# Altium footprint library LED0606.PcbLib: 1 footprints
Each footprint in its own frame and in the unit in brackets; x right, y up, seen from the top. Pads: shape width x height; smd on the part's side, far side on the other; paste and mask are expansions set on the pad; w line width, h text height; cw(c..) or ccw(c..) is an arc to the next point about the centre after c.
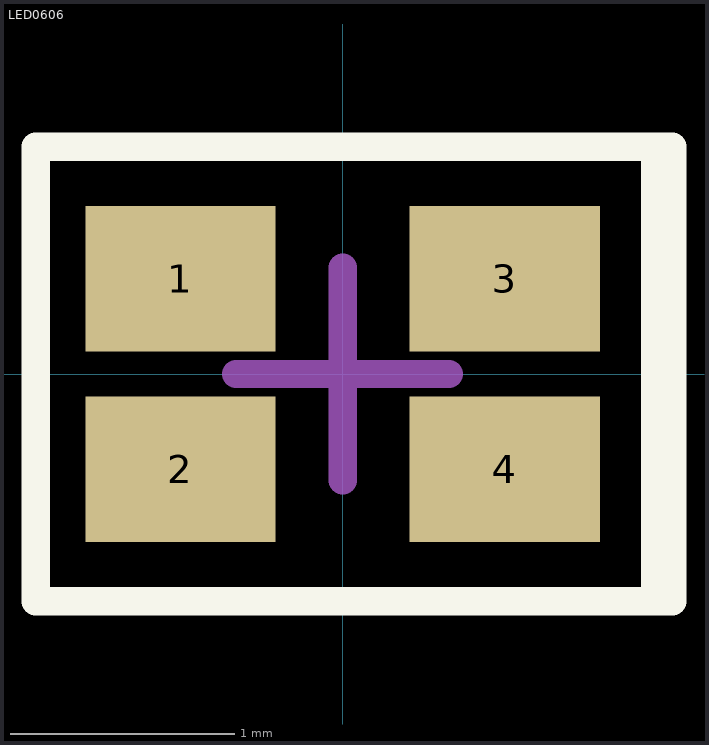
[diagram p0: the footprint, top view; thin cyan lines are the x and y axes]

## LED0606 [mm]
height 0.55
pads (4):
  rect 0.85x0.65 smd: 1(-0.725,0.425) 2(-0.725,-0.425) 3(0.725,0.425) 4(0.725,-0.425)
Top Overlay:
  lines w0.127: 1.397,-1.016 1.397,1.016 ; -1.372,-1.016 -1.372,1.016 1.473,1.016 1.473,-1.016 -1.372,-1.016
Mechanical 15:
  lines w0.127: -0.475,0 0.475,0 ; 0,-0.475 0,0.475
3D body: height 0.6, standoff 0, extent -0.81,-0.771 0.81,0.029
3D body: height 0.6, standoff 0, extent -0.81,-0.034 0.81,0.766